# Altium schematic symbol library PINHEADER-1x1.Schlib: 1 symbol
Pins are listed as number, name and electrical type; pins without a type are passive.

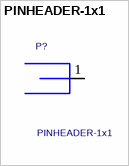
[diagram p0: symbol PINHEADER-1x1]

## PINHEADER-1x1
designator P?
FastOn Connector
pins: 1